# Altium schematic symbol library buzzer.SchLib: 1 symbol
Pins are listed as number, name and electrical type; pins without a type are passive.

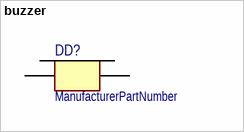
[diagram p0: symbol buzzer]

## buzzer
designator DD?  (value not drawn)
ManufacturerPartNumber: ManufacturerPartNumber
pins: 1, 2